# EAGLE library part AT29C040A (library pixel)
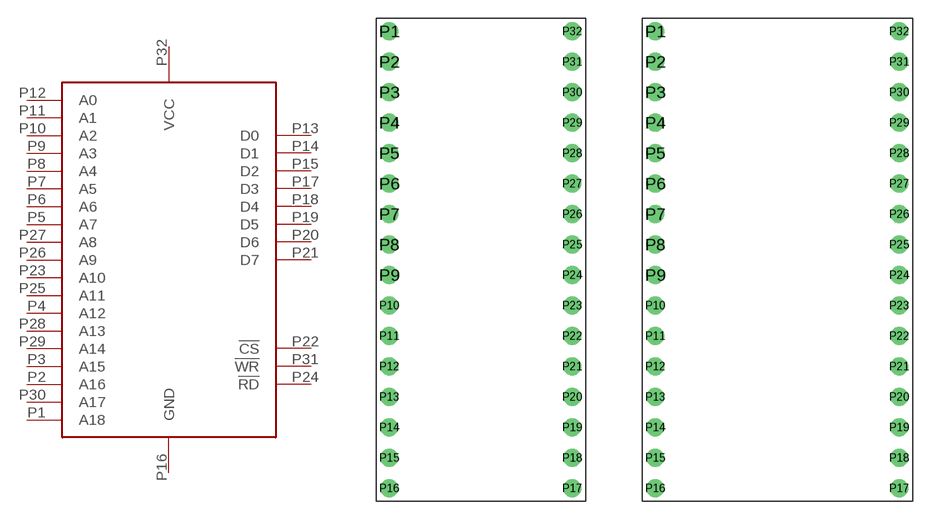
[diagram p28: symbol with the pads of DIP-32; footprints DIP-32, DIP-32-L]

Designator prefix -

## AT29C040A  [DIP-32]
P1  A18
P2  A16
P3  A15
P4  A12
P5  A7
P6  A6
P7  A5
P8  A4
P9  A3
P10  A2
P11  A1
P12  A0
P13  D0
P14  D1
P15  D2
P16  GND
P17  D3
P18  D4
P19  D5
P20  D6
P21  D7
P22  !CS
P23  A10
P24  !RD
P25  A11
P26  A9
P27  A8
P28  A13
P29  A14
P30  A17
P31  !WR
P32  VCC

## AT29C040ALARGE  [DIP-32-L]
Pads as for DIP-32

## Footprint DIP-32 (pad centres in mm)
drill 1.016: P1 -7.62,19.05; P2 -7.62,16.51; P3 -7.62,13.97; P4 -7.62,11.43; P5 -7.62,8.89; P6 -7.62,6.35; P7 -7.62,3.81; P8 -7.62,1.27; P9 -7.62,-1.27; P10 -7.62,-3.81; P11 -7.62,-6.35; P12 -7.62,-8.89; P13 -7.62,-11.43; P14 -7.62,-13.97; P15 -7.62,-16.51; P16 -7.62,-19.05; P17 7.62,-19.05; P18 7.62,-16.51; P19 7.62,-13.97; P20 7.62,-11.43; P21 7.62,-8.89; P22 7.62,-6.35; P23 7.62,-3.81; P24 7.62,-1.27; P25 7.62,1.27; P26 7.62,3.81; P27 7.62,6.35; P28 7.62,8.89; P29 7.62,11.43; P30 7.62,13.97; P31 7.62,16.51; P32 7.62,19.05

## Footprint DIP-32-L (pad centres in mm)
drill 1.016: P1 -10.16,19.05; P2 -10.16,16.51; P3 -10.16,13.97; P4 -10.16,11.43; P5 -10.16,8.89; P6 -10.16,6.35; P7 -10.16,3.81; P8 -10.16,1.27; P9 -10.16,-1.27; P10 -10.16,-3.81; P11 -10.16,-6.35; P12 -10.16,-8.89; P13 -10.16,-11.43; P14 -10.16,-13.97; P15 -10.16,-16.51; P16 -10.16,-19.05; P17 10.16,-19.05; P18 10.16,-16.51; P19 10.16,-13.97; P20 10.16,-11.43; P21 10.16,-8.89; P22 10.16,-6.35; P23 10.16,-3.81; P24 10.16,-1.27; P25 10.16,1.27; P26 10.16,3.81; P27 10.16,6.35; P28 10.16,8.89; P29 10.16,11.43; P30 10.16,13.97; P31 10.16,16.51; P32 10.16,19.05